# Altium schematic symbol library RoBeast_Schematic_Library.SchLib: 131 symbols (part 4 of 5)
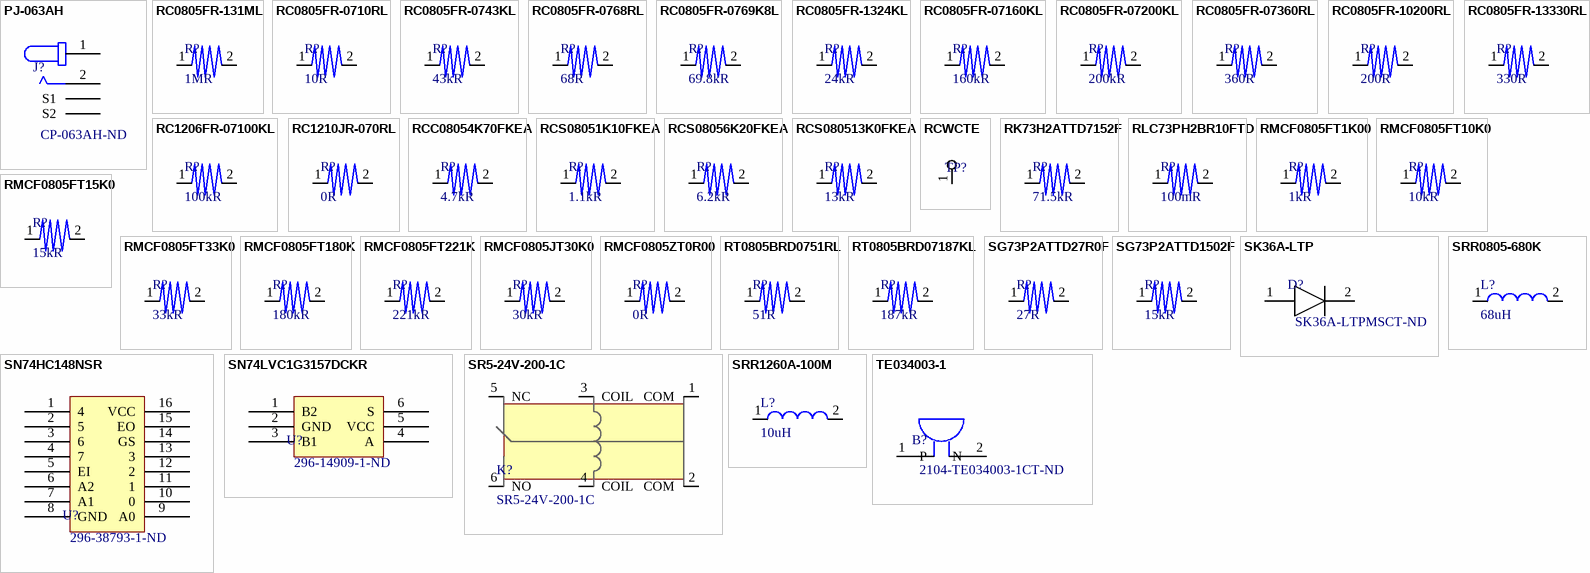
[diagram p6: symbols PJ-063AH to TE034003-1]

## RC0805FR-13330RL
designator R?, comment 330R
Fixed Resistor, Metal Glaze/thick Film, 0.125W, 330ohm, 150V, 1% +/-Tol, 100ppm/Cel, Surface Mount, 0805; Manufacturer: Yageo; Manufacturer Part Number: RC0805FR-13330RL; Additional Feature: LASER TRIMMABLE; Rated Power Dissipation (P): 125mW; Rated Temperature: 70°C; Temperature Coefficient: 100ppm/°C; Package Height: 0.5mm; Package Length: 2mm; Package Width: 1.25mm; Supplier 1: Digikey; RoHS: Yes; Category: Chip SMD Resistors; Stock 1: 36292; Pricing 1: 1=0.1, 10=0.025, 50=0.016, 100=0.0133, 500=0.00912, 1000=0.00787, 5000=0.00577, 10000=0.00511 (USD); Mount: Surface Mount; Number of Pins: 2; Package Shape: Rectangular; Size Code: 0805; Terminal Finish: Nickel; Min Operating Temperature: -55°C; Max Operating Temperature: 155°C; Tolerance: 1%; JESD-609 Code: e3; Resistor Type: FIXED RESISTOR; Construction: Chip; Package Style: SMTMeter; Packaging: Tape and Reel; Resistance: 330R; Technology: METAL GLAZE/THICK FILM; Termination: Wraparound; Working Voltage: 150V; Reach SVHC Compliant: Yes; RoHS Compliant: Yes; ComponentLink1URL: https://datasheet.ciiva.com:443/pdfs/VipMasterIC/IC/YAGO/YAGO-S-A0008145938/YAGO-S-A0008145938-1.pdf?src-supplier=IHS+Markit; ComponentLink1Description: https://datasheet.ciiva.com:443/pdfs/VipMasterIC/IC/YAGO/YAGO-S-A0008145938/YAGO-S-A0008145938-1.pdf?src-supplier=IHS+Markit; ComponentLink2URL: https://datasheet.ciiva.com/12575/rc0805-257173-12575525.pdf?src-supplier=Mouser; ComponentLink2Description: https://datasheet.ciiva.com/12575/rc0805-257173-12575525.pdf?src-supplier=Mouser; Supplier Part Number 1: 13-RC0805FR-13330RLCT-ND
footprint 0805
pins: 1, 2

## RC1206FR-07100KL
designator R?, comment 100kR
Fixed Resistor, Metal Glaze/thick Film, 0.25W, 100000ohm, 200V, 1% +/-Tol, 100ppm/Cel, Surface Mount, 1206; Manufacturer: Yageo; Manufacturer Part Number: RC1206FR-07100KL; Additional Feature: LASER TRIMMABLE; Rated Power Dissipation (P): 250mW; Rated Temperature: 70°C; Temperature Coefficient: 100ppm/°C; Package Height: 0.55mm; Package Length: 3.1mm; Package Width: 1.6mm; Supplier 1: Future Electronics; RoHS: Yes; Category: Chip SMD Resistors; Stock 1: 6154976; Pricing 1: 5000=0.0038, 20000=0.0036, 75000=0.0034, 200000=0.0033, 500000=0.003 (USD); Mount: Surface Mount; Number of Pins: 2; Package Shape: Rectangular; Size Code: 1206; Terminal Finish: Nickel; Min Operating Temperature: -55°C; Max Operating Temperature: 155°C; Tolerance: 1%; JESD-609 Code: e3; Resistor Type: FIXED RESISTOR; Construction: Chip; Package Style: SMTMeter; Packaging: Tape and Reel; Resistance: 100kR; Technology: METAL GLAZE/THICK FILM; Termination: Wraparound; Working Voltage: 200V; Reach SVHC Compliant: Yes; RoHS Compliant: Yes; ComponentLink1URL: https://datasheet.ciiva.com:443/pdfs/VipMasterIC/IC/YAGO/YAGO-S-A0008145938/YAGO-S-A0008145938-1.pdf?src-supplier=IHS+Markit; ComponentLink1Description: https://datasheet.ciiva.com:443/pdfs/VipMasterIC/IC/YAGO/YAGO-S-A0008145938/YAGO-S-A0008145938-1.pdf?src-supplier=IHS+Markit; ComponentLink2URL: https://datasheet.ciiva.com/7857/444357-7857240.pdf?src-supplier=Element14; ComponentLink2Description: https://datasheet.ciiva.com/7857/444357-7857240.pdf?src-supplier=Element14; ComponentLink3URL: https://datasheet.ciiva.com/16997/pyu-rc1206-51-rohs-l-4-16997053.pdf?src-supplier=Future+Electronics; ComponentLink3Description: https://datasheet.ciiva.com/16997/pyu-rc1206-51-rohs-l-4-16997053.pdf?src-supplier=Future+Electronics; Supplier Part Number 1: 5829452
footprint 1206
pins: 1, 2

## RC1210JR-070RL
designator R?, comment 0R
Metal Glaze/thick Film, 0.5W, 0ohm, Surface Mount, 1210; Manufacturer: Yageo; Manufacturer Part Number: RC1210JR-070RL; Rated Power Dissipation (P): 500mW; Rated Temperature: 70°C; Package Height: 0.55mm; Package Length: 3.1mm; Package Width: 2.6mm; Supplier 1: Digikey; RoHS: Yes; Category: Chip SMD Resistors; Stock 1: 364141; Pricing 1: 1=0.14, 10=0.119, 25=0.0864, 50=0.0672, 100=0.0456, 250=0.03744, 500=0.02978, 1000=0.02113 (USD); Mount: Surface Mount; Number of Pins: 2; Package Shape: Rectangular; Size Code: 1210; Terminal Finish: Nickel; Min Operating Temperature: -55°C; Max Operating Temperature: 155°C; JESD-609 Code: e3; Resistor Type: FIXED RESISTOR; Construction: Chip; Package Style: SMTMeter; Packaging: Tape and Reel; Resistance: 0R; Technology: METAL GLAZE/THICK FILM; Termination: Wraparound; Reach SVHC Compliant: Yes; RoHS Compliant: Yes; ComponentLink1URL: https://datasheet.ciiva.com:443/pdfs/VipMasterIC/IC/YAGO/YAGO-S-A0008145938/YAGO-S-A0008145938-1.pdf?src-supplier=IHS+Markit; ComponentLink1Description: https://datasheet.ciiva.com:443/pdfs/VipMasterIC/IC/YAGO/YAGO-S-A0008145938/YAGO-S-A0008145938-1.pdf?src-supplier=IHS+Markit; ComponentLink2URL: https://datasheet.ciiva.com/11808/0900766b8079c86c-11808771.pdf?src-supplier=Rs; ComponentLink2Description: https://datasheet.ciiva.com/11808/0900766b8079c86c-11808771.pdf?src-supplier=Rs; ComponentLink3URL: https://datasheet.ciiva.com/5561/pyu-rc1210-51-rohs-l-4-5561862.pdf?src-supplier=Mouser; ComponentLink3Description: https://datasheet.ciiva.com/5561/pyu-rc1210-51-rohs-l-4-5561862.pdf?src-supplier=Mouser; Supplier Part Number 1: YAG3375CT-ND
footprint 1210
pins: 1, 2

## RCC08054K70FKEA
designator R?, comment 4.7kR
Fixed Resistor, Metal Glaze/thick Film, 0.25W, 4700ohm, 200V, 1% +/-Tol, 100ppm/Cel, Surface Mount, 0805; Manufacturer: Vishay Dale; Manufacturer Part Number: RCC08054K70FKEA; Supplier 1: Digikey; RoHS: Yes; Category: Chip SMD Resistors; Stock 1: 96612; Pricing 1: 1=0.15, 10=0.069, 50=0.0454, 100=0.0385, 500=0.0271, 1000=0.0236 (USD); Supplier Part Number 1: 541-RCC08054K70FKEACT-ND
footprint 0805
pins: 1, 2

## RCS08051K10FKEA
designator R?, comment 1.1kR
Fixed Resistor, Metal Glaze/thick Film, 0.4W, 1100ohm, 150V, 1% +/-Tol, 100ppm/Cel, Surface Mount, 0805; Manufacturer: Vishay Dale; Manufacturer Part Number: RCS08051K10FKEA; Supplier 1: Digikey; RoHS: Yes; Category: Chip SMD Resistors; Stock 1: 9985; Pricing 1: 1=0.2, 10=0.104, 50=0.0712, 100=0.0613, 500=0.045, 1000=0.03986 (USD); ComponentLink1URL: https://datasheet.ciiva.com:443/pdfs/VipMasterIC/IC/VISH/VISH-S-A0007978036/VISH-S-A0007978036-1.pdf?src-supplier=IHS+Markit; ComponentLink1Description: https://datasheet.ciiva.com:443/pdfs/VipMasterIC/IC/VISH/VISH-S-A0007978036/VISH-S-A0007978036-1.pdf?src-supplier=IHS+Markit; ComponentLink2URL: http://www.vishay.com/docs/20065/rcse3.pdf?src-supplier=Digikey; ComponentLink2Description: http://www.vishay.com/docs/20065/rcse3.pdf?src-supplier=Digikey; Supplier Part Number 1: 541-RCS08051K10FKEACT-ND
footprint 0805
pins: 1, 2

## RCS08056K20FKEA
designator R?, comment 6.2kR
Fixed Resistor, Metal Glaze/thick Film, 0.4W, 6200ohm, 150V, 1% +/-Tol, 100ppm/Cel, Surface Mount, 0805; Manufacturer: Vishay Dale; Manufacturer Part Number: RCS08056K20FKEA; Supplier 1: Digikey; RoHS: Yes; Category: Chip SMD Resistors; Stock 1: 11536; Pricing 1: 1=0.2, 10=0.104, 50=0.0712, 100=0.0613, 500=0.045, 1000=0.03986 (USD); ComponentLink1URL: https://datasheet.ciiva.com:443/pdfs/VipMasterIC/IC/VISH/VISH-S-A0007978036/VISH-S-A0007978036-1.pdf?src-supplier=IHS+Markit; ComponentLink1Description: https://datasheet.ciiva.com:443/pdfs/VipMasterIC/IC/VISH/VISH-S-A0007978036/VISH-S-A0007978036-1.pdf?src-supplier=IHS+Markit; ComponentLink2URL: http://www.vishay.com/docs/20065/rcse3.pdf?src-supplier=Digikey; ComponentLink2Description: http://www.vishay.com/docs/20065/rcse3.pdf?src-supplier=Digikey; Supplier Part Number 1: 541-RCS08056K20FKEACT-ND
footprint 0805
pins: 1, 2

## RCS080513K0FKEA
designator R?, comment 13kR
Fixed Resistor, Metal Glaze/thick Film, 0.4W, 13000ohm, 150V, 1% +/-Tol, 100ppm/Cel, Surface Mount, 0805; Manufacturer: Vishay Dale; Manufacturer Part Number: RCS080513K0FKEA; Supplier 1: Digikey; RoHS: Yes; Category: Chip SMD Resistors; Stock 1: 3462; Pricing 1: 1=0.2, 10=0.104, 50=0.0712, 100=0.0613, 500=0.045, 1000=0.03986 (USD); ComponentLink1URL: https://datasheet.ciiva.com:443/pdfs/VipMasterIC/IC/VISH/VISH-S-A0007978036/VISH-S-A0007978036-1.pdf?src-supplier=IHS+Markit; ComponentLink1Description: https://datasheet.ciiva.com:443/pdfs/VipMasterIC/IC/VISH/VISH-S-A0007978036/VISH-S-A0007978036-1.pdf?src-supplier=IHS+Markit; ComponentLink2URL: http://www.vishay.com/docs/20065/rcse3.pdf?src-supplier=Digikey; ComponentLink2Description: http://www.vishay.com/docs/20065/rcse3.pdf?src-supplier=Digikey; Supplier Part Number 1: 541-RCS080513K0FKEACT-ND
footprint 0805
pins: 1, 2

## RCWCTE
designator TP?, comment Test Point Stub  (value not drawn)
Testing/Accessories; Manufacturer: KOA Speer; Manufacturer Part Number: RCWCTE; Rated Temperature: 70°C; Resistance: 0R; Package Height: 2mm; Package Length: 3.2mm; Package Width: 1.6mm; Reference Standard: AEC-Q200; Supplier 1: Digikey; RoHS: Yes; Category: Chip SMD Resistors; Stock 1: 132357; Pricing 1: 1=0.16, 10=0.137, 25=0.1212, 50=0.1132, 100=0.105, 250=0.09292, 500=0.08888, 1000=0.07272 (USD); Mount: Surface Mount; Number of Pins: 2; Package Shape: Rectangular; Size Code: 1206; Terminal Finish: Copper; Min Operating Temperature: -55°C; Max Operating Temperature: 125°C; JESD-609 Code: e2; Resistor Type: FIXED RESISTOR; Construction: Chip; Package Style: SMTMeter; Packaging: Tape and Reel; Termination: Wraparound; Reach SVHC Compliant: Yes; RoHS Compliant: Yes; ComponentLink1URL: https://datasheet.ciiva.com:443/pdfs/VipMasterIC/IC/KOAS/KOASS03065/KOASS03065-1.pdf?src-supplier=IHS+Markit; ComponentLink1Description: https://datasheet.ciiva.com:443/pdfs/VipMasterIC/IC/KOAS/KOASS03065/KOASS03065-1.pdf?src-supplier=IHS+Markit; ComponentLink2URL: https://datasheet.ciiva.com/34302/1876186-34302940.pdf?src-supplier=Jameco; ComponentLink2Description: https://datasheet.ciiva.com/34302/1876186-34302940.pdf?src-supplier=Jameco; ComponentLink3URL: https://datasheet.ciiva.com/5556/rc-5556236.pdf?src-supplier=Mouser; ComponentLink3Description: https://datasheet.ciiva.com/5556/rc-5556236.pdf?src-supplier=Mouser; ComponentLink4URL: https://datasheet.ciiva.com/26821/getdatasheetpartid-110197-26821157.pdf?src-supplier=Verical; ComponentLink4Description: https://datasheet.ciiva.com/26821/getdatasheetpartid-110197-26821157.pdf?src-supplier=Verical; Supplier Part Number 1: 2019-RCWCTECT-ND
footprint RCWCTE
pins: 1

## RK73H2ATTD7152F
designator R?, comment 71.5kR
Fixed Resistor, Metal Glaze/thick Film, 0.25W, 71500ohm, 150V, 1% +/-Tol, 100ppm/Cel, Surface Mount, 0805; Manufacturer: KOA Speer; Manufacturer Part Number: RK73H2ATTD7152F; Additional Feature: PRECISION; Rated Power Dissipation (P): 250mW; Rated Temperature: 70°C; Temperature Coefficient: 100ppm/°C; Package Height: 0.5mm; Package Length: 2mm; Package Width: 1.25mm; Reference Standard: AEC-Q200; Supplier 1: Digikey; RoHS: Yes; Category: Chip SMD Resistors; Stock 1: 821; Pricing 1: 1=0.1, 10=0.027, 50=0.0172, 100=0.0144, 500=0.00992, 1000=0.00858 (USD); Mount: Surface Mount; Number of Pins: 2; Size Code: 0805; Terminal Finish: Nickel; Min Operating Temperature: -55°C; Max Operating Temperature: 155°C; Tolerance: 1%; JESD-609 Code: e3; Resistor Type: FIXED RESISTOR; Construction: Rectangular; Package Style: SMTMeter; Packaging: Tape and Reel; Resistance: 71.5kR; Technology: METAL GLAZE/THICK FILM; Termination: Wraparound; Working Voltage: 150V; Reach SVHC Compliant: Yes; RoHS Compliant: Yes; ComponentLink1URL: https://datasheet.ciiva.com:443/pdfs/VipMasterIC/IC/KOAS/KOAS-S-A0009586304/KOAS-S-A0009586304-1.pdf?src-supplier=IHS+Markit; ComponentLink1Description: https://datasheet.ciiva.com:443/pdfs/VipMasterIC/IC/KOAS/KOAS-S-A0009586304/KOAS-S-A0009586304-1.pdf?src-supplier=IHS+Markit; ComponentLink2URL: https://datasheet.ciiva.com/7765/549017-7765254.pdf?src-supplier=Element14; ComponentLink2Description: https://datasheet.ciiva.com/7765/549017-7765254.pdf?src-supplier=Element14; ComponentLink3URL: https://datasheet.ciiva.com/5557/rk73h-5557790.pdf?src-supplier=Mouser; ComponentLink3Description: https://datasheet.ciiva.com/5557/rk73h-5557790.pdf?src-supplier=Mouser; Supplier Part Number 1: 2019-RK73H2ATTD7152FCT-ND
footprint 0805
pins: 1, 2

## RLC73PH2BR10FTD
designator R?, comment 100mR
Current Sensing Resistor, RLC73PH 2B R10, 1 percent, 5K RL | TE Connectivity RLC73PH2BR10FTD; Supplier 1: Digikey; Manufacturer: TE Connectivity; Manufacturer Part Number: RLC73PH2BR10FTD; RoHS: No; Category: Chip SMD Resistors; Stock 1: 3970; Pricing 1: 1=0.45, 10=0.308, 25=0.24, 50=0.177, 100=0.1232, 250=0.10732, 500=0.0885, 1000=0.06403 (USD); Supplier Part Number 1: 1712-RLC73PH2BR10FTDCT-ND
footprint 1206
pins: 1, 2

## RMCF0805FT1K00
designator R?, comment 1kR
Fixed Resistor, Metal Glaze/thick Film, 0.125W, 1000ohm, 150V, 1% +/-Tol, 100ppm/Cel, Surface Mount, 0805; Manufacturer: Stackpole Electronics; Manufacturer Part Number: RMCF0805FT1K00; Rated Power Dissipation (P): 125mW; Rated Temperature: 70°C; Temperature Coefficient: 100ppm/°C; Package Height: 0.5mm; Package Length: 2mm; Package Width: 1.25mm; Reference Standard: AEC-Q200; Supplier 1: Digikey; RoHS: Yes; Category: Chip SMD Resistors; Stock 1: 560749; Pricing 1: 1=0.1, 10=0.02, 50=0.0124, 100=0.0103, 500=0.007, 1000=0.00601 (USD); Mount: Surface Mount; Number of Pins: 2; Package Shape: Rectangular; Size Code: 0805; Terminal Finish: Nickel; Min Operating Temperature: -55°C; Max Operating Temperature: 155°C; Tolerance: 1%; JESD-609 Code: e3; Resistor Type: FIXED RESISTOR; Construction: Rectangular; Package Style: SMTMeter; Packaging: Tape and Reel; Resistance: 1kR; Technology: METAL GLAZE/THICK FILM; Termination: Wraparound; Working Voltage: 150V; Reach SVHC Compliant: Yes; RoHS Compliant: Yes; ComponentLink1URL: https://datasheet.ciiva.com:443/pdfs/VipMasterIC/IC/SEIE/SEIE-S-A0009541969/SEIE-S-A0009541969-1.pdf?src-supplier=IHS+Markit; ComponentLink1Description: https://datasheet.ciiva.com:443/pdfs/VipMasterIC/IC/SEIE/SEIE-S-A0009541969/SEIE-S-A0009541969-1.pdf?src-supplier=IHS+Markit; ComponentLink2URL: https://datasheet.ciiva.com/15193/getdatasheetpartid-360136-15193546.pdf?src-supplier=Verical; ComponentLink2Description: https://datasheet.ciiva.com/15193/getdatasheetpartid-360136-15193546.pdf?src-supplier=Verical; Supplier Part Number 1: RMCF0805FT1K00CT-ND
footprint 0805
pins: 1, 2

## RMCF0805FT10K0
designator R?, comment 10kR
Fixed Resistor, Metal Glaze/thick Film, 0.125W, 10000ohm, 150V, 1% +/-Tol, 100ppm/Cel, Surface Mount, 0805; Manufacturer: Stackpole Electronics; Manufacturer Part Number: RMCF0805FT10K0; Rated Power Dissipation (P): 125mW; Rated Temperature: 70°C; Temperature Coefficient: 100ppm/°C; Package Height: 0.5mm; Package Length: 2mm; Package Width: 1.25mm; Reference Standard: AEC-Q200; Supplier 1: Digikey; RoHS: Yes; Category: Chip SMD Resistors; Stock 1: 3602197; Pricing 1: 1=0.1, 10=0.02, 50=0.0124, 100=0.0103, 500=0.007, 1000=0.00601 (USD); Mount: Surface Mount; Number of Pins: 2; Package Shape: Rectangular; Size Code: 0805; Terminal Finish: Nickel; Min Operating Temperature: -55°C; Max Operating Temperature: 155°C; Tolerance: 1%; JESD-609 Code: e3; Resistor Type: FIXED RESISTOR; Construction: Rectangular; Package Style: SMTMeter; Packaging: Tape and Reel; Resistance: 10kR; Technology: METAL GLAZE/THICK FILM; Termination: Wraparound; Working Voltage: 150V; Reach SVHC Compliant: Yes; RoHS Compliant: Yes; ComponentLink1URL: https://datasheet.ciiva.com:443/pdfs/VipMasterIC/IC/SEIE/SEIE-S-A0009541969/SEIE-S-A0009541969-1.pdf?src-supplier=IHS+Markit; ComponentLink1Description: https://datasheet.ciiva.com:443/pdfs/VipMasterIC/IC/SEIE/SEIE-S-A0009541969/SEIE-S-A0009541969-1.pdf?src-supplier=IHS+Markit; ComponentLink2URL: https://datasheet.ciiva.com/15193/getdatasheetpartid-362046-15193525.pdf?src-supplier=Verical; ComponentLink2Description: https://datasheet.ciiva.com/15193/getdatasheetpartid-362046-15193525.pdf?src-supplier=Verical; Supplier Part Number 1: RMCF0805FT10K0CT-ND
footprint 0805
pins: 1, 2

## RMCF0805FT15K0
designator R?, comment 15kR
Fixed Resistor, Metal Glaze/thick Film, 0.125W, 15000ohm, 150V, 1% +/-Tol, 100ppm/Cel, Surface Mount, 0805; Manufacturer: Stackpole Electronics; Manufacturer Part Number: RMCF0805FT15K0; Rated Power Dissipation (P): 125mW; Rated Temperature: 70°C; Temperature Coefficient: 100ppm/°C; Package Height: 0.5mm; Package Length: 2mm; Package Width: 1.25mm; Reference Standard: AEC-Q200; Supplier 1: Digikey; RoHS: Yes; Category: Chip SMD Resistors; Stock 1: 265633; Pricing 1: 1=0.1, 10=0.02, 50=0.0124, 100=0.0103, 500=0.007, 1000=0.00601 (USD); Mount: Surface Mount; Number of Pins: 2; Package Shape: Rectangular; Size Code: 0805; Terminal Finish: Nickel; Min Operating Temperature: -55°C; Max Operating Temperature: 155°C; Tolerance: 1%; JESD-609 Code: e3; Resistor Type: FIXED RESISTOR; Construction: Rectangular; Package Style: SMTMeter; Packaging: Tape and Reel; Resistance: 15kR; Technology: METAL GLAZE/THICK FILM; Termination: Wraparound; Working Voltage: 150V; Reach SVHC Compliant: Yes; RoHS Compliant: Yes; ComponentLink1URL: https://datasheet.ciiva.com:443/pdfs/VipMasterIC/IC/SEIE/SEIE-S-A0009541969/SEIE-S-A0009541969-1.pdf?src-supplier=IHS+Markit; ComponentLink1Description: https://datasheet.ciiva.com:443/pdfs/VipMasterIC/IC/SEIE/SEIE-S-A0009541969/SEIE-S-A0009541969-1.pdf?src-supplier=IHS+Markit; ComponentLink2URL: http://components.arrow.com/part/dataview/43745629S7171760N1174?src-supplier=Arrow+Electronics; ComponentLink2Description: http://components.arrow.com/part/dataview/43745629S7171760N1174?src-supplier=Arrow+Electronics; ComponentLink3URL: https://www.seielect.com/catalog/SEI-RMCF_RMCP.pdf?src-supplier=Avnet; ComponentLink3Description: https://www.seielect.com/catalog/SEI-RMCF_RMCP.pdf?src-supplier=Avnet; ComponentLink4URL: https://www.seielect.com/catalog/SEI-Packaging.pdf?src-supplier=Digikey; ComponentLink4Description: https://www.seielect.com/catalog/SEI-Packaging.pdf?src-supplier=Digikey; ComponentLink5URL: https://www.seielect.com/Catalog/SEI-RMCF_RMCP.pdf?src-supplier=Digikey; ComponentLink5Description: https://www.seielect.com/Catalog/SEI-RMCF_RMCP.pdf?src-supplier=Digikey; ComponentLink6URL: http://www.seielect.com/Catalog/SEI-RMC.pdf?src-supplier=Future+Electronics; ComponentLink6Description: http://www.seielect.com/Catalog/SEI-RMC.pdf?src-supplier=Future+Electronics; ComponentLink7URL: https://www.verical.com/server-webapp/html/getDatasheet?partID=371018&src-supplier=Verical; ComponentLink7Description: https://www.verical.com/server-webapp/html/getDatasheet?partID=371018&src-supplier=Verical; Supplier Part Number 1: RMCF0805FT15K0CT-ND
footprint 0805
pins: 1, 2

## RMCF0805FT33K0
designator R?, comment 33kR
Fixed Resistor, Metal Glaze/thick Film, 0.125W, 33000ohm, 150V, 1% +/-Tol, 100ppm/Cel, Surface Mount, 0805; Manufacturer: Stackpole Electronics; Manufacturer Part Number: RMCF0805FT33K0; Power: 125mW; Rated Temperature: 70°C; Temperature Coefficient: 100ppm/°C; Package Height: 0.5mm; Package Length: 2mm; Package Width: 1.25mm; Reference Standard: AEC-Q200; Supplier: Digikey; Supplier Part Number: RMCF0805FT33K0CT-ND; RoHS: Yes; Category: Chip SMD Resistors; Stock: 82683; Pricing: 1=0.1, 10=0.02, 50=0.0124, 100=0.0103, 500=0.007, 1000=0.00601 (USD); Mounting Technology: Surface Mount; Pins: 2; Package Shape: Rectangular; Case/Package: 0805; Terminal Finish: Nickel; Min Operating Temperature: -55°C; Max Operating Temperature: 155°C; Tolerance: 1%; JESD-609 Code: e3; Resistor Type: FIXED RESISTOR; Construction: Rectangular; Package Style: SMTMeter; Packaging: Tape and Reel; Value: 33kR; Technology: METAL GLAZE/THICK FILM; Termination: Wraparound; Working Voltage: 150V; Reach SVHC Compliant: Yes; RoHS Compliant: Yes; ComponentLink1URL: https://datasheet.ciiva.com:443/pdfs/VipMasterIC/IC/SEIE/SEIE-S-A0009541969/SEIE-S-A0009541969-1.pdf?src-supplier=IHS+Markit; ComponentLink1Description: https://datasheet.ciiva.com:443/pdfs/VipMasterIC/IC/SEIE/SEIE-S-A0009541969/SEIE-S-A0009541969-1.pdf?src-supplier=IHS+Markit; ComponentLink2URL: https://datasheet.ciiva.com/15193/getdatasheetpartid-376374-15193580.pdf?src-supplier=Verical; ComponentLink2Description: https://datasheet.ciiva.com/15193/getdatasheetpartid-376374-15193580.pdf?src-supplier=Verical
footprint 0805
pins: 1, 2

## RMCF0805FT180K
designator R?, comment 180kR
Fixed Resistor, Metal Glaze/thick Film, 0.125W, 180000ohm, 150V, 1% +/-Tol, 100ppm/Cel, Surface Mount, 0805; Manufacturer: Stackpole Electronics; Manufacturer Part Number: RMCF0805FT180K; Power: 125mW; Rated Temperature: 70°C; Temperature Coefficient: 100ppm/°C; Package Height: 0.5mm; Package Length: 2mm; Package Width: 1.25mm; Reference Standard: AEC-Q200; Supplier: Digikey; Supplier Part Number: 738-RMCF0805FT180KCT-ND; RoHS: Yes; Category: Chip SMD Resistors; Stock: 40141; Pricing: 1=0.1, 10=0.02, 50=0.0124, 100=0.0103, 500=0.007, 1000=0.00601 (USD); Mounting Technology: Surface Mount; Pins: 2; Package Shape: Rectangular; Case/Package: 0805; Terminal Finish: Nickel; Min Operating Temperature: -55°C; Max Operating Temperature: 155°C; Tolerance: 1%; JESD-609 Code: e3; Resistor Type: FIXED RESISTOR; Construction: Rectangular; Package Style: SMTMeter; Packaging: Tape and Reel; Value: 180kR; Technology: METAL GLAZE/THICK FILM; Termination: Wraparound; Working Voltage: 150V; Reach SVHC Compliant: Yes; RoHS Compliant: Yes; ComponentLink1URL: https://datasheet.ciiva.com:443/pdfs/VipMasterIC/IC/SEIE/SEIE-S-A0009541969/SEIE-S-A0009541969-1.pdf?src-supplier=IHS+Markit; ComponentLink1Description: https://datasheet.ciiva.com:443/pdfs/VipMasterIC/IC/SEIE/SEIE-S-A0009541969/SEIE-S-A0009541969-1.pdf?src-supplier=IHS+Markit; ComponentLink2URL: https://www.seielect.com/catalog/SEI-RMCF_RMCP.pdf?src-supplier=Avnet; ComponentLink2Description: https://www.seielect.com/catalog/SEI-RMCF_RMCP.pdf?src-supplier=Avnet; ComponentLink3URL: https://www.seielect.com/catalog/SEI-Packaging.pdf?src-supplier=Digikey; ComponentLink3Description: https://www.seielect.com/catalog/SEI-Packaging.pdf?src-supplier=Digikey; ComponentLink4URL: https://www.seielect.com/catalog/sei-rmcf_rmcp.pdf?src-supplier=Digikey; ComponentLink4Description: https://www.seielect.com/catalog/sei-rmcf_rmcp.pdf?src-supplier=Digikey
footprint 0805
pins: 1, 2

## RMCF0805FT221K
designator R?, comment 221kR
Fixed Resistor, Metal Glaze/thick Film, 0.125W, 221000ohm, 150V, 1% +/-Tol, 100ppm/Cel, Surface Mount, 0805; Manufacturer: Stackpole Electronics; Manufacturer Part Number: RMCF0805FT221K; Power: 125mW; Rated Temperature: 70°C; Temperature Coefficient: 100ppm/°C; Package Height: 0.5mm; Package Length: 2mm; Package Width: 1.25mm; Reference Standard: AEC-Q200; Supplier: Digikey; Supplier Part Number: RMCF0805FT221KCT-ND; RoHS: Yes; Category: Chip SMD Resistors; Stock: 79363; Pricing: 1=0.1, 10=0.02, 50=0.0124, 100=0.0103, 500=0.007, 1000=0.00601 (USD); Mounting Technology: Surface Mount; Pins: 2; Package Shape: Rectangular; Case/Package: 0805; Terminal Finish: Nickel; Min Operating Temperature: -55°C; Max Operating Temperature: 155°C; Tolerance: 1%; JESD-609 Code: e3; Resistor Type: FIXED RESISTOR; Construction: Rectangular; Package Style: SMTMeter; Packaging: Tape and Reel; Value: 221kR; Technology: METAL GLAZE/THICK FILM; Termination: Wraparound; Working Voltage: 150V; Reach SVHC Compliant: Yes; RoHS Compliant: Yes; ComponentLink1URL: https://datasheet.ciiva.com:443/pdfs/VipMasterIC/IC/SEIE/SEIE-S-A0009541969/SEIE-S-A0009541969-1.pdf?src-supplier=IHS+Markit; ComponentLink1Description: https://datasheet.ciiva.com:443/pdfs/VipMasterIC/IC/SEIE/SEIE-S-A0009541969/SEIE-S-A0009541969-1.pdf?src-supplier=IHS+Markit; ComponentLink2URL: http://components.arrow.com/part/dataview/43746072S6999278N1174?src-supplier=Arrow+Electronics; ComponentLink2Description: http://components.arrow.com/part/dataview/43746072S6999278N1174?src-supplier=Arrow+Electronics; ComponentLink3URL: https://www.verical.com/server-webapp/html/getDatasheet?partID=368657&src-supplier=Verical; ComponentLink3Description: https://www.verical.com/server-webapp/html/getDatasheet?partID=368657&src-supplier=Verical; ComponentLink4URL: https://www.seielect.com/catalog/SEI-RMCF_RMCP.pdf?src-supplier=Avnet; ComponentLink4Description: https://www.seielect.com/catalog/SEI-RMCF_RMCP.pdf?src-supplier=Avnet; ComponentLink5URL: https://www.seielect.com/Catalog/SEI-RMCF_RMCP.pdf?src-supplier=Digikey; ComponentLink5Description: https://www.seielect.com/Catalog/SEI-RMCF_RMCP.pdf?src-supplier=Digikey; ComponentLink6URL: https://www.seielect.com/catalog/SEI-Packaging.pdf?src-supplier=Digikey; ComponentLink6Description: https://www.seielect.com/catalog/SEI-Packaging.pdf?src-supplier=Digikey; ComponentLink7URL: http://seielect.com/Catalog/SEI-RMC.pdf?src-supplier=Future+Electronics; ComponentLink7Description: http://seielect.com/Catalog/SEI-RMC.pdf?src-supplier=Future+Electronics
footprint 0805
pins: 1, 2

## RMCF0805JT30K0
designator R?, comment 30kR
Fixed Resistor, Metal Glaze/thick Film, 0.125W, 30000ohm, 150V, 5% +/-Tol, 200ppm/Cel, Surface Mount, 0805; Manufacturer: Stackpole Electronics; Manufacturer Part Number: RMCF0805JT30K0; Power: 125mW; Rated Temperature: 70°C; Temperature Coefficient: 200ppm/°C; Package Height: 0.5mm; Package Length: 2mm; Package Width: 1.25mm; Reference Standard: AEC-Q200; Supplier: Digikey; Supplier Part Number: RMCF0805JT30K0CT-ND; RoHS: Yes; Category: Chip SMD Resistors; Stock: 117904; Pricing: 1=0.1, 10=0.017, 50=0.0104, 100=0.0087, 500=0.0058, 1000=0.00494 (USD); Mounting Technology: Surface Mount; Pins: 2; Package Shape: Rectangular; Case/Package: 0805; Terminal Finish: Nickel; Min Operating Temperature: -55°C; Max Operating Temperature: 155°C; Tolerance: 5%; JESD-609 Code: e3; Resistor Type: FIXED RESISTOR; Construction: Rectangular; Package Style: SMTMeter; Packaging: Tape and Reel; Value: 30kR; Technology: METAL GLAZE/THICK FILM; Termination: Wraparound; Working Voltage: 150V; Reach SVHC Compliant: Yes; RoHS Compliant: Yes; ComponentLink1URL: https://datasheet.ciiva.com:443/pdfs/VipMasterIC/IC/SEIE/SEIE-S-A0009541969/SEIE-S-A0009541969-1.pdf?src-supplier=IHS+Markit; ComponentLink1Description: https://datasheet.ciiva.com:443/pdfs/VipMasterIC/IC/SEIE/SEIE-S-A0009541969/SEIE-S-A0009541969-1.pdf?src-supplier=IHS+Markit; ComponentLink2URL: https://www.seielect.com/catalog/SEI-RMCF_RMCP.pdf?src-supplier=Avnet; ComponentLink2Description: https://www.seielect.com/catalog/SEI-RMCF_RMCP.pdf?src-supplier=Avnet; ComponentLink3URL: http://components.arrow.com/part/dataview/40965419S7384147N1174?src-supplier=Arrow+Electronics; ComponentLink3Description: http://components.arrow.com/part/dataview/40965419S7384147N1174?src-supplier=Arrow+Electronics; ComponentLink4URL: https://www.seielect.com/Catalog/SEI-RMCF_RMCP.pdf?src-supplier=Digikey; ComponentLink4Description: https://www.seielect.com/Catalog/SEI-RMCF_RMCP.pdf?src-supplier=Digikey; ComponentLink5URL: https://www.seielect.com/catalog/SEI-Packaging.pdf?src-supplier=Digikey; ComponentLink5Description: https://www.seielect.com/catalog/SEI-Packaging.pdf?src-supplier=Digikey; ComponentLink6URL: https://www.verical.com/server-webapp/html/getDatasheet?partID=484329&src-supplier=Verical; ComponentLink6Description: https://www.verical.com/server-webapp/html/getDatasheet?partID=484329&src-supplier=Verical
footprint 0805
pins: 1, 2

## RMCF0805ZT0R00
designator R?, comment 0R
Fixed Resistor, Metal Glaze/thick Film, 0.125W, 0ohm, Surface Mount, 0805; Manufacturer: Stackpole Electronics; Manufacturer Part Number: RMCF0805ZT0R00; Rated Power Dissipation (P): 125mW; Rated Temperature: 70°C; Working Voltage: 150V; Package Height: 0.5mm; Package Length: 2mm; Package Width: 1.25mm; Reference Standard: AEC-Q200; Supplier 1: Digikey; RoHS: Yes; Category: Chip SMD Resistors; Stock 1: 1154169; Pricing 1: 1=0.1, 10=0.017, 25=0.0128, 50=0.0096, 100=0.0068, 250=0.00544, 500=0.00436, 1000=0.00321 (USD); Mount: Surface Mount; Number of Pins: 2; Package Shape: Rectangular; Size Code: 0805; Terminal Finish: Nickel; Min Operating Temperature: -55°C; Max Operating Temperature: 155°C; JESD-609 Code: e3; Resistor Type: FIXED RESISTOR; Construction: Rectangular; Package Style: SMTMeter; Packaging: Tape and Reel; Resistance: 0R; Technology: METAL GLAZE/THICK FILM; Termination: Wraparound; Reach SVHC Compliant: Yes; RoHS Compliant: Yes; ComponentLink1URL: https://datasheet.ciiva.com:443/pdfs/VipMasterIC/IC/SEIE/SEIE-S-A0007077258/SEIE-S-A0007077258-1.pdf?src-supplier=IHS+Markit; ComponentLink1Description: https://datasheet.ciiva.com:443/pdfs/VipMasterIC/IC/SEIE/SEIE-S-A0007077258/SEIE-S-A0007077258-1.pdf?src-supplier=IHS+Markit; ComponentLink2URL: https://datasheet.ciiva.com/15193/getdatasheetpartid-360417-15193658.pdf?src-supplier=Verical; ComponentLink2Description: https://datasheet.ciiva.com/15193/getdatasheetpartid-360417-15193658.pdf?src-supplier=Verical; Supplier Part Number 1: RMCF0805ZT0R00CT-ND
footprint 0805
pins: 1, 2

## RT0805BRD0751RL
designator R?, comment 51R
Fixed Resistor, Thin Film, 0.125W, 51ohm, 150V, 0.1% +/-Tol, 25ppm/Cel, Surface Mount, 0805; Manufacturer: Yageo; Manufacturer Part Number: RT0805BRD0751RL; Additional Feature: HIGH PRECISION; Rated Power Dissipation (P): 125mW; Rated Temperature: 70°C; Temperature Coefficient: 25ppm/°C; Package Height: 0.5mm; Package Length: 2mm; Package Width: 1.25mm; Supplier 1: Digikey; RoHS: Yes; Category: Chip SMD Resistors; Stock 1: 16448; Pricing 1: 1=0.36, 10=0.248, 50=0.1424, 100=0.0991, 500=0.07122, 1000=0.05153 (USD); Mount: Surface Mount; Number of Pins: 2; Size Code: 0805; Min Operating Temperature: -55°C; Max Operating Temperature: 155°C; Tolerance: 0.1%; Resistor Type: FIXED RESISTOR; Construction: Chip; Package Style: SMTMeter; Packaging: Tape and Reel; Resistance: 51R; Technology: THIN FILM; Termination: Wraparound; Working Voltage: 150V; Reach SVHC Compliant: Yes; RoHS Compliant: Yes; ComponentLink1URL: https://datasheet.ciiva.com:443/pdfs/VipMasterIC/IC/YAGO/YAGO-S-A0008510989/YAGO-S-A0008510989-1.pdf?src-supplier=IHS+Markit; ComponentLink1Description: https://datasheet.ciiva.com:443/pdfs/VipMasterIC/IC/YAGO/YAGO-S-A0008510989/YAGO-S-A0008510989-1.pdf?src-supplier=IHS+Markit; ComponentLink2URL: https://datasheet.ciiva.com/46635/pyu-rt-1-to-0-05-rohs-l-5-46635334.pdf?src-supplier=Digikey; ComponentLink2Description: https://datasheet.ciiva.com/46635/pyu-rt-1-to-0-05-rohs-l-5-46635334.pdf?src-supplier=Digikey; ComponentLink3URL: https://datasheet.ciiva.com/2585/pyu-rt-1-to-0-05-rohs-l-4-2585077.pdf?src-supplier=Digikey; ComponentLink3Description: https://datasheet.ciiva.com/2585/pyu-rt-1-to-0-05-rohs-l-4-2585077.pdf?src-supplier=Digikey; ComponentLink4URL: https://datasheet.ciiva.com/12811/pyu-rt-1-to-0-05-rohs-l-4-12811485.pdf?src-supplier=Mouser; ComponentLink4Description: https://datasheet.ciiva.com/12811/pyu-rt-1-to-0-05-rohs-l-4-12811485.pdf?src-supplier=Mouser; Supplier Part Number 1: YAG1925CT-ND
footprint 0805
pins: 1, 2

## RT0805BRD07187KL
designator R?, comment 187kR
Fixed Resistor, Thin Film, 0.125W, 187000ohm, 150V, 0.1% +/-Tol, 25ppm/Cel, Surface Mount, 0805; Manufacturer: Yageo; Manufacturer Part Number: RT0805BRD07187KL; Additional Feature: HIGH PRECISION; Rated Power Dissipation (P): 125mW; Rated Temperature: 70°C; Temperature Coefficient: 25ppm/°C; Package Height: 0.5mm; Package Length: 2mm; Package Width: 1.25mm; Supplier 1: Digikey; RoHS: Yes; Category: Chip SMD Resistors; Stock 1: 5495; Pricing 1: 1=0.15, 10=0.113, 50=0.0884, 100=0.0791, 500=0.06002, 1000=0.05296 (USD); Mount: Surface Mount; Number of Pins: 2; Size Code: 0805; Min Operating Temperature: -55°C; Max Operating Temperature: 155°C; Tolerance: 0.1%; Resistor Type: FIXED RESISTOR; Construction: Chip; Package Style: SMTMeter; Packaging: Tape and Reel; Resistance: 187kR; Technology: THIN FILM; Termination: Wraparound; Working Voltage: 150V; Reach SVHC Compliant: Yes; RoHS Compliant: Yes; ComponentLink1URL: https://datasheet.ciiva.com:443/pdfs/VipMasterIC/IC/YAGO/YAGO-S-A0008510989/YAGO-S-A0008510989-1.pdf?src-supplier=IHS+Markit; ComponentLink1Description: https://datasheet.ciiva.com:443/pdfs/VipMasterIC/IC/YAGO/YAGO-S-A0008510989/YAGO-S-A0008510989-1.pdf?src-supplier=IHS+Markit; ComponentLink2URL: https://datasheet.ciiva.com/2584/pyu-rt-1-to-0-05-rohs-l-5-2584781.pdf?src-supplier=Digikey; ComponentLink2Description: https://datasheet.ciiva.com/2584/pyu-rt-1-to-0-05-rohs-l-5-2584781.pdf?src-supplier=Digikey; Supplier Part Number 1: 13-RT0805BRD07187KLCT-ND
footprint 0805
pins: 1, 2

## SG73P2ATTD27R0F
designator R?, comment 27R
Fixed Resistor, Metal Glaze/thick Film, 0.5W, 27ohm, 400V, 1% +/-Tol, 200ppm/Cel, Surface Mount, 0805; Manufacturer: KOA Speer; Manufacturer Part Number: SG73P2ATTD27R0F; Rated Power Dissipation (P): 250mW; Rated Temperature: 70°C; Temperature Coefficient: 200ppm/°C; Package Height: 0.5mm; Package Length: 2mm; Package Width: 1.25mm; Reference Standard: AEC-Q200; Supplier 1: Digikey; RoHS: Yes; Category: Chip SMD Resistors; Stock 1: 9351; Pricing 1: 1=0.18, 10=0.09, 50=0.0602, 100=0.0514, 500=0.03686, 1000=0.03245 (USD); Mount: Surface Mount; Number of Pins: 2; Size Code: 0805; Terminal Finish: Nickel; Min Operating Temperature: -55°C; Max Operating Temperature: 155°C; Tolerance: 1%; JESD-609 Code: e3; Resistor Type: FIXED RESISTOR; Construction: Rectangular; Package Style: SMTMeter; Packaging: Tape and Reel; Resistance: 27R; Technology: METAL GLAZE/THICK FILM; Termination: Wraparound; Working Voltage: 400V; Reach SVHC Compliant: Yes; RoHS Compliant: Yes; ComponentLink1URL: https://datasheet.ciiva.com:443/pdfs/VipMasterIC/IC/KOAS/KOAS-S-A0009586268/KOAS-S-A0009586268-1.pdf?src-supplier=IHS+Markit; ComponentLink1Description: https://datasheet.ciiva.com:443/pdfs/VipMasterIC/IC/KOAS/KOAS-S-A0009586268/KOAS-S-A0009586268-1.pdf?src-supplier=IHS+Markit; ComponentLink2URL: http://www.koaspeer.com/catimages/Products/SG73/SG73.pdf?src-supplier=Mouser; ComponentLink2Description: http://www.koaspeer.com/catimages/Products/SG73/SG73.pdf?src-supplier=Mouser; Supplier Part Number 1: 2019-SG73P2ATTD27R0FCT-ND
footprint 0805
pins: 1, 2

## SG73P2ATTD1502F
designator R?, comment 15kR
Fixed Resistor, Metal Glaze/thick Film, 0.5W, 15000ohm, 400V, 1% +/-Tol, 100ppm/Cel, Surface Mount, 0805; Manufacturer: KOA Speer; Manufacturer Part Number: SG73P2ATTD1502F; Rated Power Dissipation (P): 250mW; Rated Temperature: 70°C; Temperature Coefficient: 100ppm/°C; Package Height: 0.5mm; Package Length: 2mm; Package Width: 1.25mm; Reference Standard: AEC-Q200; Supplier 1: Digikey; RoHS: Yes; Category: Resistors; Stock 1: 5000; Pricing 1: 1=0.18, 10=0.09, 50=0.0602, 100=0.0514, 500=0.03686, 1000=0.03245 (USD); Mount: Surface Mount; Number of Pins: 2; Size Code: 0805; Terminal Finish: Nickel; Min Operating Temperature: -55°C; Max Operating Temperature: 155°C; Tolerance: 1%; JESD-609 Code: e3; Resistor Type: FIXED RESISTOR; Construction: Rectangular; Package Style: SMTMeter; Packaging: Tape and Reel; Resistance: 15kR; Technology: METAL GLAZE/THICK FILM; Termination: Wraparound; Working Voltage: 400V; Reach SVHC Compliant: Yes; RoHS Compliant: Yes; ComponentLink1URL: https://datasheet.ciiva.com:443/pdfs/VipMasterIC/IC/KOAS/KOAS-S-A0009586268/KOAS-S-A0009586268-1.pdf?src-supplier=IHS+Markit; ComponentLink1Description: https://datasheet.ciiva.com:443/pdfs/VipMasterIC/IC/KOAS/KOAS-S-A0009586268/KOAS-S-A0009586268-1.pdf?src-supplier=IHS+Markit; ComponentLink2URL: https://datasheet.ciiva.com/5685/78338-5685838.pdf?src-supplier=Farnell; ComponentLink2Description: https://datasheet.ciiva.com/5685/78338-5685838.pdf?src-supplier=Farnell; ComponentLink3URL: https://datasheet.ciiva.com/22640/78338-22640859.pdf?src-supplier=Farnell; ComponentLink3Description: https://datasheet.ciiva.com/22640/78338-22640859.pdf?src-supplier=Farnell; ComponentLink4URL: https://datasheet.ciiva.com/7773/78338-7773512.pdf?src-supplier=Element14; ComponentLink4Description: https://datasheet.ciiva.com/7773/78338-7773512.pdf?src-supplier=Element14; Supplier Part Number 1: 2019-SG73P2ATTD1502FCT-ND
footprint 0805
pins: 1, 2

## SK36A-LTP
designator D?, comment Supplier Part Number 1: SK36A-LTPMSCT-ND  (hidden comment: Shottky Diode)
Rectifier Diode, Schottky, 1 Phase, 1 Element, 3A, 60V V(RRM), Silicon, DO-214AC; Manufacturer: MCC; Manufacturer Part Number: SK36A-LTP; Package Body Material: Plastic; Application(s): GENERAL PURPOSE; Forward Voltage-Max (VF): 750mV; Non-rep Pk Forward Current-Max: 80A; Number of Elements: 1; Time @ Peak Reflow Temperature-Max (s): 10s; Supplier 1: Digikey; RoHS: Yes; Category: Rectifier Diodes; Stock 1: 225069; Pricing 1: 1=0.34, 10=0.239, 100=0.1207, 500=0.09844, 1000=0.07304, 2000=0.06145 (USD); Number of Pins: 2; Diode Element Material: SILICON; Package Shape: Rectangular; Terminal Finish: Tin; Max Operating Temperature: 125°C; JESD-609 Code: e3; Diode Type: RECTIFIER; JESD-30 Code: R-PDSO-C2; Moisture Sensitivity Level: 1; Number of Phases: 1; Max Output Current: 3A; Package Style: SMALL OUTLINEMeter; Peak Reflow Temperature (Cel): 260°C; Rep Pk Reverse Voltage-Max: 60V; Surface Mount: Yes; Technology: SCHOTTKY; Terminal Form: C BEND; Terminal Position: DUAL; JEDEC-95 Code: DO-214AC; RoHS Compliant: Yes; Reach SVHC Compliant: No; ComponentLink1URL: https://datasheet.ciiva.com:443/pdfs/VipMasterIC/IC/MCCC/MCCC-S-A0007291529/MCCC-S-A0007291529-1.pdf?src-supplier=IHS+Markit; ComponentLink1Description: https://datasheet.ciiva.com:443/pdfs/VipMasterIC/IC/MCCC/MCCC-S-A0007291529/MCCC-S-A0007291529-1.pdf?src-supplier=IHS+Markit; ComponentLink2URL: https://datasheet.ciiva.com/17441/sk32a-ltsk310a-ltdo-214ac-17441980.pdf?src-supplier=Future+Electronics; ComponentLink2Description: https://datasheet.ciiva.com/17441/sk32a-ltsk310a-ltdo-214ac-17441980.pdf?src-supplier=Future+Electronics; ComponentLink3URL: https://datasheet.ciiva.com/917/sk32a-ltsk310a-lt28do-214ac29-917376.pdf?src-supplier=Digikey; ComponentLink3Description: https://datasheet.ciiva.com/917/sk32a-ltsk310a-lt28do-214ac29-917376.pdf?src-supplier=Digikey; ComponentLink4URL: https://datasheet.ciiva.com/917/sk32a-ltsk310a-lt28do-214ac29-917377.pdf?src-supplier=Digikey; ComponentLink4Description: https://datasheet.ciiva.com/917/sk32a-ltsk310a-lt28do-214ac29-917377.pdf?src-supplier=Digikey; ComponentLink5URL: https://datasheet.ciiva.com/917/sk32a-ltsk310a-lt28do-214ac29-917375.pdf?src-supplier=Digikey; ComponentLink5Description: https://datasheet.ciiva.com/917/sk32a-ltsk310a-lt28do-214ac29-917375.pdf?src-supplier=Digikey
footprint SK36A-LTP
pins: 1 A, 2 K

## SN74HC148NSR
designator U?, comment Supplier Part Number 1: 296-38793-1-ND  (hidden comment: 8:3 Encoder)
Encoder, HC Series, 8-Bit, Inverted Output, CMOS, PDSO16; Manufacturer: Texas Instruments; Manufacturer Part Number: SN74HC148NSR; Package Body Material: Plastic; Number of Bits: 8; Number of Functions: 1; Package Equivalence Code: SOP16,.3; Power Supplies: 2/6V; Propagation Delay (tpd): 240ns; Supply Voltage-Max (Vsup): 6V; Supply Voltage-Min (Vsup): 2V; Supply Voltage-Nom (Vsup): 5V; Qualification Status: Not Qualified; Supplier 1: Digikey; RoHS: Yes; Category: Integrated Circuits (ICs); Stock 1: 5295; Pricing 1: 1=0.62, 10=0.547, 25=0.5136, 100=0.4191, 250=0.38924, 500=0.33128, 1000=0.26502 (USD); Package Code: SOP; Number of Pins: 16; Package Shape: Rectangular; Terminal Finish: Nickel; Min Operating Temperature: -40°C; Max Operating Temperature: 85°C; JESD-609 Code: e4; Output Polarity: INVERTED; JESD-30 Code: R-PDSO-G16; Logic IC Type: ENCODER; Moisture Sensitivity Level: 1; Package Style: SMALL OUTLINEMeter; Peak Reflow Temperature (Cel): 260°C; Surface Mount: Yes; Technology: CMOS; Terminal Form: Gull Wing; Terminal Position: DUAL; Length: 10.2mm; Width: 5.3mm; Height - Seated (Max): 2mm; Terminal Pitch: 1.27mm; Temperature Grade: INDUSTRIAL; RoHS Compliant: Yes; Reach SVHC Compliant: Yes; ComponentLink1URL: https://www.ti.com:443/lit/ds/symlink/sn54hc148.pdf?src-supplier=IHS+Markit; ComponentLink1Description: https://www.ti.com:443/lit/ds/symlink/sn54hc148.pdf?src-supplier=IHS+Markit; ComponentLink2URL: https://datasheet.ciiva.com/15092/getdatasheetpartid-623308-15092039.pdf?src-supplier=Verical; ComponentLink2Description: https://datasheet.ciiva.com/15092/getdatasheetpartid-623308-15092039.pdf?src-supplier=Verical; ComponentLink3URL: https://datasheet.ciiva.com/14314/sn74hc148-14314744.pdf?src-supplier=Avnet; ComponentLink3Description: https://datasheet.ciiva.com/14314/sn74hc148-14314744.pdf?src-supplier=Avnet; ComponentLink4URL: https://datasheet.ciiva.com/1891/sn74hc148-1891994.pdf?src-supplier=Digikey; ComponentLink4Description: https://datasheet.ciiva.com/1891/sn74hc148-1891994.pdf?src-supplier=Digikey
footprint SN74HC148NSR
pins: 1 4, 2 5, 3 6, 4 7, 5 EI, 6 A2, 7 A1, 8 GND, 9 A0, 10 0, 11 1, 12 2, 13 3, 14 GS, 15 EO, 16 VCC

## SN74LVC1G3157DCKR
designator U?, comment Supplier Part Number 1: 296-14909-1-ND  (hidden comment: SPDT)
SPDT, 1 Func, 1 Channel, CMOS, PDSO6; Manufacturer: Texas Instruments; Manufacturer Part Number: SN74LVC1G3157DCKR; Package Body Material: Plastic; Number of Functions: 1; On-state Resistance-Max (Ron): 30R; Output: COMMON OUTPUTV; Package Equivalence Code: TSSOP6,.08; Power Supplies: 1.8/5V; Switching: BREAK-BEFORE-MAKEV; Off-state Isolation-Nom: 57dB; On-state Resistance Match-Nom: 100mR; Supply Voltage-Max (Vsup): 5.5V; Supply Voltage-Min (Vsup): 1.65V; Supply Voltage-Nom (Vsup): 2.3V; Switch-off Time-Max: 7.5ns; Switch-on Time-Max: 14ns; Qualification Status: Not Qualified; Supplier 1: Digikey; RoHS: Yes; Category: Interface ICs; Stock 1: 558918; Pricing 1: 1=0.34, 10=0.25, 25=0.2192, 100=0.1418, 250=0.1174, 500=0.09392, 1000=0.07201 (USD); Package Code: TSSOP; Number of Pins: 6; Package Shape: Rectangular; Terminal Finish: Nickel; Min Operating Temperature: -40°C; Max Operating Temperature: 85°C; Analog IC - Other Type: SPDT; JESD-30 Code: R-PDSO-G6; Package Style: SMALL OUTLINE, THIN PROFILE, SHRINK PITCHMeter; Surface Mount: Yes; Technology: CMOS; Terminal Form: Gull Wing; Terminal Position: DUAL; JESD-609 Code: e4; Moisture Sensitivity Level: 1; Number of Channels: 1; Peak Reflow Temperature (Cel): 260°C; Length: 2mm; Width: 1.25mm; Height - Seated (Max): 1.1mm; Terminal Pitch: 0.65mm; Temperature Grade: INDUSTRIAL; RoHS Compliant: Yes; Reach SVHC Compliant: Yes; ComponentLink1URL: https://www.ti.com:443/lit/ds/symlink/sn74lvc1g3157.pdf?src-supplier=IHS+Markit; ComponentLink1Description: https://www.ti.com:443/lit/ds/symlink/sn74lvc1g3157.pdf?src-supplier=IHS+Markit; ComponentLink2URL: https://datasheet.ciiva.com/34301/756764-34301477.pdf?src-supplier=Jameco; ComponentLink2Description: https://datasheet.ciiva.com/34301/756764-34301477.pdf?src-supplier=Jameco; ComponentLink3URL: https://datasheet.ciiva.com/15127/getdatasheetpartid-187022-15127388.pdf?src-supplier=Verical; ComponentLink3Description: https://datasheet.ciiva.com/15127/getdatasheetpartid-187022-15127388.pdf?src-supplier=Verical; ComponentLink4URL: https://datasheet.ciiva.com/41461/001187224-da-01-en-ic-switch-sn74lvc1g3157dckr-sc-70-6-tid-41461882.pdf?src-supplier=Conrad; ComponentLink4Description: https://datasheet.ciiva.com/41461/001187224-da-01-en-ic-switch-sn74lvc1g3157dckr-sc-70-6-tid-41461882.pdf?src-supplier=Conrad; ComponentLink5URL: https://datasheet.ciiva.com/1669/sn74lvc1g3157-1669381.pdf?src-supplier=Digikey; ComponentLink5Description: https://datasheet.ciiva.com/1669/sn74lvc1g3157-1669381.pdf?src-supplier=Digikey; ComponentLink6URL: https://datasheet.ciiva.com/1669/sn74lvc1g3157-1669380.pdf?src-supplier=Digikey; ComponentLink6Description: https://datasheet.ciiva.com/1669/sn74lvc1g3157-1669380.pdf?src-supplier=Digikey; ComponentLink7URL: https://datasheet.ciiva.com/1514/1857156-1514550.pdf?src-supplier=Element14; ComponentLink7Description: https://datasheet.ciiva.com/1514/1857156-1514550.pdf?src-supplier=Element14; ComponentLink8URL: https://datasheet.ciiva.com/46411/1786793-46411528.pdf?src-supplier=Element14; ComponentLink8Description: https://datasheet.ciiva.com/46411/1786793-46411528.pdf?src-supplier=Element14; ComponentLink9URL: https://datasheet.ciiva.com/1669/sn74lvc1g3157-1669382.pdf?src-supplier=Digikey; ComponentLink9Description: https://datasheet.ciiva.com/1669/sn74lvc1g3157-1669382.pdf?src-supplier=Digikey; ComponentLink10URL: https://datasheet.ciiva.com/14435/sn74lvc1g3157-14435733.pdf?src-supplier=Avnet; ComponentLink10Description: https://datasheet.ciiva.com/14435/sn74lvc1g3157-14435733.pdf?src-supplier=Avnet
footprint SN74LVC1G3157DCKR
pins: 1 B2, 2 GND, 3 B1, 4 A, 5 VCC, 6 S

## SR5-24V-200-1C
designator K?
General Purpose Relay SPDT
footprint SR5-24V-200-1C
pins: 1 COM, 2 COM, 3 COIL, 4 COIL, 5 NC, 6 NO

## SRR0805-680K
designator L?, comment 68uH
General Purpose Inductor, 68uH, 10%, 1 Element, Ferrite-Core, SMD, 4132; Manufacturer: Bourns; Manufacturer Part Number: SRR0805-680K; Case/Size Code: 4132; DC Resistance (DCR): 440mR; Inductor Application: POWER INDUCTOR; Channels: 1; Quality Factor-Min (at L-nom): 28; Max Current Rating: 600mA; Self Resonant Frequency: 9MHz; Shape/Size Description: RECTANGULAR PACKAGE; Shielding: Shielded; Test Frequency: 1kHz; Package Height: 4.7mm; Package Length: 10.5mm; Package Width: 8mm; Supplier: Digikey; Supplier Part Number: SRR0805-680KCT-ND; RoHS: Yes; Category: Fixed Inductors; Stock: 1038; Pricing: 1=0.84, 10=0.71, 25=0.6452, 50=0.6066, 100=0.5034, 250=0.46468, 500=0.43886 (USD); Pins: 2; Core Material: Ferrite; Terminal Finish: Nickel; Min Operating Temperature: -40°C; Max Operating Temperature: 125°C; Tolerance: 10%; JESD-609 Code: e3; Construction: Chip; Inductance-Nom (L): 68uH; Inductor Type: GENERAL PURPOSE INDUCTOR; Package Style: SMTMeter; Packaging: Tape and Reel; Surface Mount: Yes; Terminal Placement: Dual Ended; Termination: Wraparound; Reach SVHC Compliant: Yes; RoHS Compliant: Yes; ComponentLink1URL: https://datasheet.ciiva.com:443/pdfs/VipMasterIC/IC/BOUR/BOUR-S-A0006763147/BOUR-S-A0006777772-1.pdf?src-supplier=IHS+Markit; ComponentLink1Description: https://datasheet.ciiva.com:443/pdfs/VipMasterIC/IC/BOUR/BOUR-S-A0006763147/BOUR-S-A0006777772-1.pdf?src-supplier=IHS+Markit; ComponentLink2URL: https://datasheet.ciiva.com/1071/srr0805-1071084.pdf?src-supplier=Digikey; ComponentLink2Description: https://datasheet.ciiva.com/1071/srr0805-1071084.pdf?src-supplier=Digikey
footprint SRR0805-680K
pins: 1, 2

## SRR1260A-100M
designator L?, comment 10uH
General Purpose Inductor, 10uH, 20%, 1 Element, Ferrite-Core, SMD, 4949; Manufacturer: Bourns; Manufacturer Part Number: SRR1260A-100M; Supplier: Digikey; Supplier Part Number: SRR1260A-100MCT-ND; RoHS: No; Category: Fixed Inductors; Stock: 4747; Pricing: 1=1.3, 10=1.097, 25=0.9968, 50=0.937, 100=0.7776, 250=0.71776 (USD); ComponentLink1URL: https://datasheet.ciiva.com:443/pdfs/VipMasterIC/IC/BOUR/BOUR-S-A0006604552/BOUR-S-A0006604552-1.pdf?src-supplier=IHS+Markit; ComponentLink1Description: https://datasheet.ciiva.com:443/pdfs/VipMasterIC/IC/BOUR/BOUR-S-A0006604552/BOUR-S-A0006604552-1.pdf?src-supplier=IHS+Markit; ComponentLink2URL: https://datasheet.ciiva.com/48685/srr1260a-48685244.pdf?src-supplier=Avnet; ComponentLink2Description: https://datasheet.ciiva.com/48685/srr1260a-48685244.pdf?src-supplier=Avnet; ComponentLink3URL: https://datasheet.ciiva.com/41859/srr1260a-41859692.pdf?src-supplier=Digikey; ComponentLink3Description: https://datasheet.ciiva.com/41859/srr1260a-41859692.pdf?src-supplier=Digikey
footprint SRR1260A-100M
pins: 1, 2

## TE034003-1
designator B?, comment Supplier Part Number 1: 2104-TE034003-1CT-ND  (hidden comment: Buzzer)
Electro-mechanical Transducer; Manufacturer: DB Unlimited; Manufacturer Part Number: TE034003-1; Supplier 1: Digikey; RoHS: No; Category: Audio Products; Stock 1: 5468; Pricing 1: 1=2.3, 10=1.911, 25=1.7652, 50=1.659, 100=1.5568, 250=1.44984, 500=1.33496, 1000=1.29987 (USD)
footprint TE034003-1
pins: 1 P, 2 N

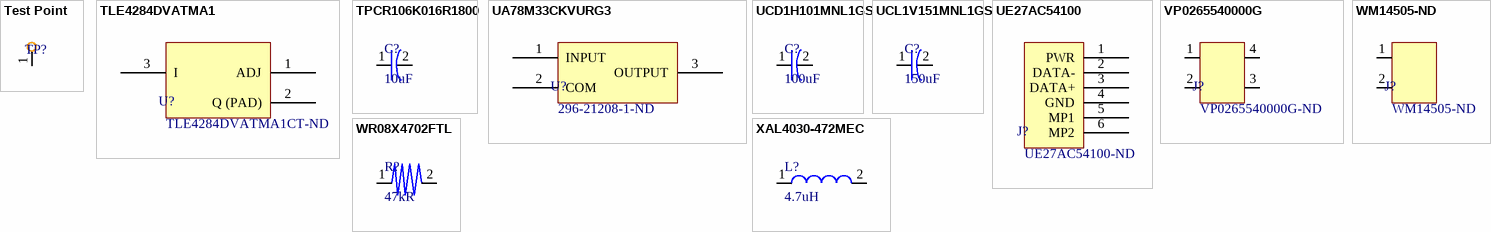
[diagram p3: symbols Test Point to XAL4030-472MEC]

## Test Point
designator TP?  (value not drawn)
footprint Test Point
pins: 1